# Altium footprint library nucleo-144.PcbLib: 1 footprints
Each footprint in its own frame and in the unit in brackets; x right, y up, seen from the top. Pads: shape width x height; smd on the part's side, far side on the other; paste and mask are expansions set on the pad; w line width, h text height; cw(c..) or ccw(c..) is an arc to the next point about the centre after c.
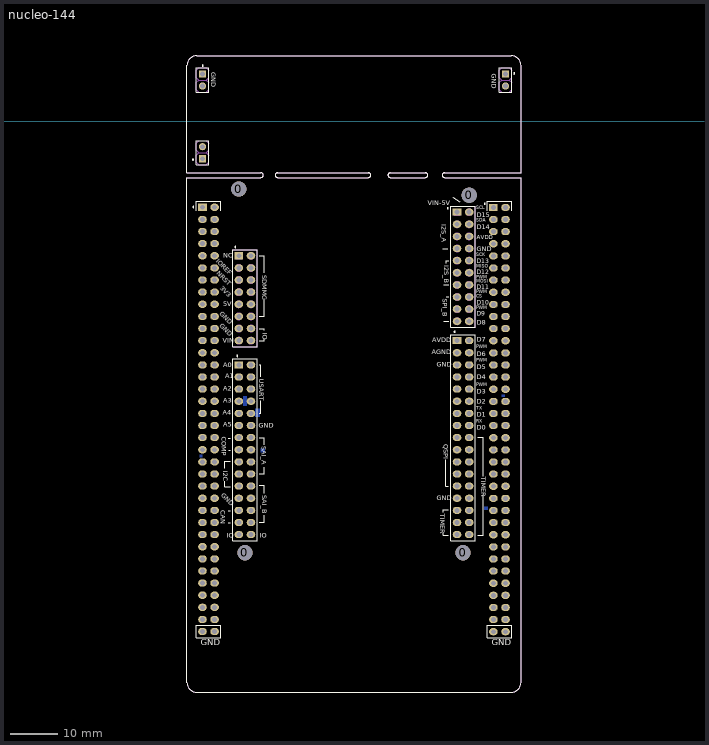
[diagram p0: the footprint, top view; thin cyan lines are the x and y axes]

## nucleo-144 [mm]
pads (254):
  round 3.2 hole 3.2 unplated: 0(55.143,-14.249) 0(56.413,-90.449) 0(102.133,-90.449) 0(103.403,-15.519)
  oval 1.8x1.5 hole 1.02: 1(47.523,-106.959) 1(47.523,-79.019) 1(47.523,-40.919) 1(50.063,-106.959) 1(50.063,-91.719) 1(50.063,-43.459) 1(50.063,-40.919) 1(50.063,-25.679) 1(55.143,-79.019) 1(55.143,-43.459) 1(55.143,-40.919) 1(57.683,-63.779) 1(100.863,-79.019) 1(100.863,-66.319) 1(100.863,-51.079) 1(103.403,-71.399) 1(103.403,-26.695) 1(108.483,-106.985) 1(108.483,-96.825) 1(108.483,-66.345) 1(108.483,-28.245) 1(111.023,-106.985) 1(111.023,-84.125) 1(111.023,-40.945) 3(57.683,-33.299) 4(50.063,-61.239) 4(50.063,-18.059) 4(57.683,-35.839) 5(47.523,-20.599) 5(57.683,-38.379) 6(50.063,-20.599) 6(57.683,-40.919) 7(47.523,-23.139) 8(50.063,-23.139) 9(47.523,-25.679) 10(47.523,-28.219) 11(50.063,-28.219) 13(57.683,-28.219) 13(111.023,-18.085) 14(47.523,-30.759) 14(57.683,-81.559) 15(50.063,-30.759) 15(55.143,-30.759) 16(47.523,-33.299) 17(50.063,-33.299) 17(55.143,-33.299) 18(47.523,-35.839) 19(50.063,-35.839) 19(55.143,-35.839) 20(47.523,-38.379) 20(100.863,-29.235) 21(50.063,-38.379) 21(55.143,-38.379) 22(47.523,-43.459) 22(57.683,-30.759) 23(47.523,-45.999) 24(50.063,-45.999) 24(55.143,-45.999) 25(47.523,-48.539) 26(50.063,-48.539) 27(47.523,-51.079) 29(47.523,-53.619) 29(55.143,-76.479) 30(50.063,-53.619) 31(47.523,-56.159) 31(55.143,-73.939) 32(50.063,-56.159) 32(100.863,-39.395) 33(47.523,-58.699) 34(50.063,-58.699) 34(100.863,-84.099) 35(47.523,-61.239) 35(100.863,-56.159) 37(47.523,-63.779) 37(55.143,-56.159) 38(50.063,-63.779) 38(55.143,-53.619) 39(47.523,-66.319) 39(57.683,-58.699) 40(50.063,-66.319) 40(57.683,-61.239) 41(47.523,-68.859) 41(57.683,-56.159) 42(50.063,-68.859) 42(57.683,-43.459) 43(47.523,-71.399) 43(57.683,-53.619) 44(50.063,-71.399) 44(57.683,-45.999) 45(47.523,-73.939) 45(57.683,-51.079) 46(50.063,-73.939) 46(57.683,-66.319) 46(100.863,-76.479) 47(47.523,-76.479) 47(57.683,-76.479) 48(50.063,-76.479) 48(57.683,-68.859) 49(50.063,-79.019) 49(57.683,-71.399) 50(47.523,-81.559) 52(47.523,-84.099) 53(50.063,-84.099) 53(57.683,-79.019) 54(47.523,-86.639) 54(55.143,-84.099) 55(50.063,-86.639) 55(57.683,-84.099) 56(47.523,-89.179) 56(55.143,-81.559) 57(50.063,-89.179) 57(57.683,-86.639) 58(47.523,-91.719) 58(55.143,-86.639) 59(47.523,-94.259) 60(50.063,-94.259) 60(57.683,-73.939) 62(50.063,-96.799) 63(47.523,-99.339) 64(50.063,-99.339) 65(47.523,-101.879) 66(50.063,-101.879) 67(47.523,-104.419) 68(50.063,-104.419) 69(108.483,-63.805) 70(55.143,-58.699) 70(111.023,-89.205) 71(55.143,-61.239) 71(111.023,-61.265) 73(55.143,-66.319) 74(55.143,-68.859) 74(103.403,-34.315) 75(50.063,-81.559) 75(55.143,-71.399) 80(103.403,-19.075) 80(108.483,-20.625) 81(111.023,-20.625) 82(103.403,-21.615) 82(108.483,-23.165) 83(111.023,-23.165) 84(103.403,-24.155) 84(108.483,-25.705) 85(111.023,-25.705) 86(111.023,-28.245) 87(103.403,-29.235) 87(108.483,-30.785) 88(111.023,-30.785) 89(103.403,-31.775) 89(108.483,-33.325) 90(111.023,-33.325) 91(108.483,-35.865) 92(100.863,-26.695) 92(111.023,-35.865) 93(100.863,-61.239) 93(108.483,-38.405) 94(103.403,-86.639) 94(111.023,-38.405) 95(100.863,-31.775) 95(108.483,-40.945) 96(108.483,-43.485) 97(100.863,-63.779) 97(111.023,-43.485) 98(108.483,-46.025) 99(100.863,-53.619) 99(111.023,-46.025) 100(103.403,-84.099) 100(108.483,-48.565) 101(100.863,-21.615) 101(111.023,-48.565) 102(100.863,-41.935) 102(108.483,-51.105) 103(111.023,-51.105) 104(100.863,-34.315) 104(108.483,-53.645) 105(100.863,-24.155) 105(111.023,-53.645) 106(100.863,-36.855) 106(108.483,-56.185) 107(100.863,-48.539) 107(111.023,-56.185) 108(108.483,-58.725) 109(111.023,-58.725) 110(108.483,-61.265) 112(100.863,-58.699) 112(111.023,-63.805) 113(103.403,-66.319) 113(111.023,-66.345) 115(55.143,-63.779) 115(111.023,-68.885) 116(100.863,-71.399) 116(108.483,-71.425) 117(103.403,-68.859) 117(111.023,-71.425) 119(103.403,-36.855) 119(111.023,-73.965) 120(103.403,-73.939) 120(108.483,-76.505) 121(103.403,-39.395) 121(111.023,-76.505) 122(103.403,-76.479) 122(108.483,-79.045) 123(103.403,-53.619) 123(111.023,-79.045) 124(103.403,-79.019) 124(108.483,-81.585) 125(103.403,-48.539) 125(111.023,-81.585) 126(103.403,-81.559) 126(108.483,-84.125) 127(103.403,-56.159) 127(108.483,-86.665) 128(103.403,-51.079) 128(111.023,-86.665) 129(103.403,-45.999) 129(108.483,-89.205) 131(103.403,-41.935) 131(108.483,-91.745) 132(103.403,-58.699) 132(111.023,-91.745) 134(111.023,-94.285) 135(100.863,-86.639) 135(111.023,-96.825) 136(108.483,-99.365) 137(111.023,-99.365) 138(108.483,-101.905) 139(111.023,-101.905) 140(108.483,-104.445) 141(111.023,-104.445) 144(103.403,-61.239) 144(108.483,-94.285) 145(47.523,-96.799) 145(103.403,-63.779) 146(100.863,-68.859) 146(108.483,-68.885) 148(100.863,-73.939) 148(108.483,-73.965) 149(50.063,-51.079) 149(100.863,-81.559)
  rect 1.5x1.5 hole 1.02: 1(47.523,-7.899) 1(47.523,9.881) 1(111.023,9.881)
  round 1.5 hole 1.02: 1(47.523,7.341) 1(111.023,7.341) 2(47.523,-5.359)
  rect 1.8x1.5 hole 1.02: 3(47.523,-18.059) 12(55.143,-28.219) 69(55.143,-51.079) 78(108.483,-18.085) 81(100.863,-19.075) 84(100.863,-45.999)
Mid-Layer 3:
  pour cut-out: 51.74,-63.017 51.076,-63.017 51.076,-63.729 51.765,-63.729
  pour cut-out: 53.334,-37.943 52.476,-37.943 52.476,-38.684 53.316,-38.684
  pour cut-out: 53.976,-45.788 53.976,-46.406 53.289,-46.406 53.289,-45.788
  pour cut-out: 104.546,-54.204 103.665,-54.204 103.665,-54.788 104.528,-54.788
  pour cut-out: 59.212,-80.738 59.212,-81.356 58.525,-81.356 58.525,-80.738
  pour cut-out: 59.234,-78.275 59.234,-78.892 58.547,-78.892 58.547,-78.275
  pour cut-out: 51.868,-81.399 51.868,-82.017 51.181,-82.017 51.181,-81.399
Bottom Layer:
  pour cut-out: 46.956,-69.926 46.956,-70.404 47.473,-70.404 47.473,-69.919
  pour cut-out: 59.747,-68.656 59.747,-69.366 60.598,-69.366 60.598,-68.656
  pour cut-out: 106.578,-80.828 107.34,-80.828 107.34,-81.483 106.578,-81.483
  pour cut-out: 110.846,-57.302 110.846,-57.785 110.261,-57.785 110.261,-57.302
  pour cut-out: 58.612,-60.238 59.499,-60.238 59.499,-61.987 58.607,-61.987
  pour cut-out: 56.109,-57.69 56.109,-59.651 56.769,-59.651 56.769,-57.683
Top Overlay:
  circle w0.25: c100.348,-44.145 r0.127
  circle w0.25: c98.903,-18.288 r0.127
  circle w0.25: c54.839,-49.2 r0.127
  circle w0.25: c54.416,-26.391 r0.127
  circle w0.25: c45.542,-8.077 r0.127
  circle w0.25: c47.555,11.633 r0.127
  circle w0.25: c112.852,9.982 r0.127
  circle w0.25: c106.672,-17.348 r0.127
  circle w0.25: c45.618,-18.001 r0.127
  lines w0.127: 46.253,-18.771 46.253,-16.789 51.333,-16.789 51.333,-18.771 ; 46.269,-119.661 81.559,-119.661 ; 52.222,-75.438 52.222,-76.581 53.315,-76.581 ; 52.222,-72.746 52.222,-71.298 53.315,-71.298 ; 52.908,-84.201 53.315,-84.201 ; 52.908,-81.661 53.315,-81.661 ; 52.959,-66.421 53.315,-66.421 ; 53.01,-68.961 53.315,-68.961 ; 59.411,-84.099 60.503,-84.099 60.503,-82.601 ; 59.411,-76.276 60.503,-76.276 60.503,-78.003 ; 59.411,-73.939 60.503,-73.939 60.503,-72.517 ; 59.411,-66.319 60.503,-66.319 60.503,-67.818 ; 59.411,-61.239 59.766,-61.239 59.766,-58.598 ; 59.411,-51.079 59.766,-51.079 59.766,-53.569 ; 59.411,-45.999 60.503,-45.999 60.503,-45.65 ; 59.411,-43.459 60.503,-43.459 60.503,-43.84 ; 59.411,-40.919 60.481,-40.919 60.481,-37.262 ; 59.411,-28.219 60.481,-28.219 60.481,-31.725 ; 97.869,-26.695 98.962,-26.695 ; 97.942,-86.335 97.942,-86.741 99.035,-86.741 ; 97.942,-81.991 97.942,-81.458 99.035,-81.458 ; 98.044,-41.935 99.136,-41.935 ; 98.044,-34.315 99.136,-34.315 ; 98.527,-70.93 98.527,-76.479 99.012,-76.479 ; 98.552,-36.855 99.136,-36.855 ; 98.552,-29.794 98.552,-29.235 99.136,-29.235 ; 99.949,-15.977 101.397,-16.942 ; 105.232,-86.741 106.324,-86.741 106.324,-78.511 ; 105.232,-66.218 106.324,-66.218 106.324,-74.371 ; 107.213,-18.796 107.213,-16.815 112.293,-16.815 112.293,-18.796 ; 112.269,-119.655 ccw(c112.269,-117.655) 114.269,-117.655 ; 112.273,-119.659 46.273,-119.659 cw(c46.273,-117.659) 44.273,-117.659 44.273,-11.819 59.773,-11.819 ccw(c59.773,-11.319) 59.773,-10.819 44.273,-10.819 44.273,11.681 cw(c46.273,11.681) 46.273,13.681 112.273,13.681 cw(c112.273,11.681) 114.273,11.681 114.273,-10.819 98.273,-10.819 ccw(c98.273,-11.319) 98.273,-11.819 114.273,-11.819 114.273,-117.659 ; 107.213,-108.255 112.293,-108.255 112.293,-105.664 107.213,-105.664 107.213,-108.255 ; 107.213,-108.255 107.213,-108.255 ; 46.253,-108.229 51.333,-108.229 51.333,-105.639 46.253,-105.639 46.253,-108.229 ; 63.273,-11.819 cw(c63.273,-11.319) 63.273,-10.819 82.273,-10.819 cw(c82.273,-11.319) 82.273,-11.819 63.273,-11.82 ; 86.893,-11.819 cw(c86.893,-11.319) 86.893,-10.819 94.223,-10.819 cw(c94.223,-11.319) 94.223,-11.819 86.893,-11.819
  lines w0.2: 46.253,-9.169 48.793,-9.169 48.793,-4.089 46.253,-4.089 46.253,-9.169 ; 46.253,6.071 46.253,11.151 48.793,11.151 48.793,6.071 46.253,6.071 ; 53.873,-87.909 58.953,-87.909 58.953,-49.809 53.873,-49.809 53.873,-87.909 ; 53.873,-47.269 53.873,-26.949 58.953,-26.949 58.953,-47.269 53.873,-47.269 ; 99.593,-87.909 99.593,-44.729 104.673,-44.729 104.673,-87.909 99.593,-87.909 ; 99.593,-43.205 104.673,-43.205 104.673,-17.805 99.593,-17.805 99.593,-43.205 ; 109.753,6.071 112.293,6.071 112.293,11.151 109.753,11.151 109.753,6.071
  text "AVDD" at 95.682,-46.304 h1.02
  text "AGND" at 95.575,-48.87 h1.02
  text "GND" at 96.586,-51.435 h1.02
  text "GND" at 59.309,-64.262 h1.02
  text "IO" at 52.584,-87.3 h1.02
  text "IO" at 59.538,-87.351 h1.02
  text "I2S_B" at 98.146,-30.175 h1.02
  text "GND" at 49.378,10.287 h1.02
  text "GND" at 108.179,9.879 h1.02
  text "VIN-5V" at 94.742,-17.678 h1.02
  text "A0" at 51.857,-51.537 h1.02
  text "A1" at 52.292,-53.873 h1.02
  text "A2" at 51.857,-56.54 h1.02
  text "A3" at 51.857,-58.979 h1.02
  text "A4" at 51.809,-61.493 h1.02
  text "A5" at 51.857,-64.084 h1.02
  text "D7" at 104.978,-46.228 h1.02
  text "D6" at 104.978,-49.301 h1.02
  text "RX" at 104.878,-63.468 h1.14
  text "TX" at 104.878,-60.782 h1.14
  text "D2" at 104.978,-59.207 h1.02
  text "D3" at 104.978,-57.175 h1.02
  text "D4" at 104.978,-54.102 h1.02
  text "D5" at 104.978,-51.968 h1.02
  text "D15" at 104.978,-20.117 h1.02
  text "D14" at 104.978,-22.682 h1.02
  text "AVDD" at 104.978,-24.79 h0.84
  text "GND" at 104.978,-27.254 h1.02
  text "D13" at 104.978,-29.794 h0.89
  text "D12" at 104.978,-32.106 h0.89
  text "D11" at 104.978,-35.281 h0.89
  text "D10" at 104.978,-38.456 h0.89
  text "D9" at 104.978,-40.792 h0.89
  text "D8" at 104.978,-42.647 h1.02
  text "IOREF" at 50.343,-29.515 h1.02
  text "GND" at 51.086,-40.434 h0.97
  text "NRST" at 50.368,-32.029 h1.02
  text "3V3" at 51.156,-35.077 h1.02
  text "5V" at 51.867,-38.837 h1.02
  text "VIN" at 51.751,-46.482 h1.02
  text "GND" at 51.061,-43.021 h0.97
  text "SDMMC" at 60.02,-32.283 h1.02
  text "IO" at 60.173,-44.323 h1.02
  text "USART" at 59.461,-54 h1.02
  text "SAI_A" at 59.893,-68.174 h1.02
  text "SAI_B" at 60.046,-78.435 h1.02
  text "CAN" at 51.384,-81.585 h1.02
  text "I2C" at 51.892,-73.228 h1.02
  text "COMP" at 51.537,-66.167 h1.02
  text "I2S_A" at 97.638,-21.641 h1.02
  text "SPI_B" at 97.841,-37.186 h1.02
  text "TIMER" at 105.893,-74.549 h1.02
  text "PWM" at 104.877,-39.726 h1.14
  text "PWM" at 104.878,-47.959 h1.14
  text "PWM" at 104.878,-50.775 h1.14
  text "PWM" at 104.878,-55.88 h1.14
  text "SCL" at 104.878,-18.745 h1.14
  text "SDA" at 104.878,-21.387 h1.14
  text "SCK" at 104.877,-28.651 h1.14
  text "MISO" at 104.877,-31.013 h1.14
  text "MOSI" at 104.877,-34.214 h1.14
  text "CS" at 104.877,-37.313 h1.14
  text "GND" at 96.586,-79.451 h1.02
  text "D1" at 104.978,-61.976 h1.02
  text "D0" at 104.978,-64.719 h1.02
  text "PWM" at 104.877,-36.373 h1.14
  text "PWM" at 104.877,-33.325 h1.14
  text "NC" at 51.862,-28.6 h1.02
  text "GND" at 51.308,-78.486 h0.97
  text "GND" at 47.168,-109.779 h1.27
  text "GND" at 108.153,-109.779 h1.27
  text "QSPI" at 98.095,-67.742 h1.02
  text "TIMER" at 97.295,-82.321 h1.02
Bottom Overlay:
  lines w0.127: 98.908,-49.606 98.984,-49.606
  text "PH0" at 45.949,-85.319 h0.71
  text "PH1" at 45.949,-82.271 h0.71
  text "OSCI" at 46.355,-55.016 h0.71
  text "PC8" at 113.868,-17.145 h0.71
  text "PC6" at 114.021,-19.583 h0.71
  text "PC5" at 114.046,-22.225 h0.71
  text "U5V" at 113.944,-24.892 h0.71
  text "PD8" at 113.944,-27.356 h0.71
  text "PA11" at 113.767,-33.249 h0.71
  text "PB12" at 113.868,-35.763 h0.71
  text "PB11" at 113.919,-38.278 h0.71
  text "GND" at 114.046,-40.132 h0.71
  text "PB2" at 113.919,-42.52 h0.71
  text "PC4" at 113.894,-57.963 h0.71
  text "AGND" at 114.137,-55.651 h0.71
  text "PB13" at 114.071,-53.315 h0.71
  text "PB14" at 113.919,-50.902 h0.71
  text "PB1" at 113.767,-45.212 h0.71
  text "PD14" at 114.097,-73.482 h0.71
  text "PE7" at 113.944,-70.764 h0.71
  text "PF10" at 114.148,-68.326 h0.71
  text "PE8" at 113.894,-65.405 h0.71
  text "PF4" at 113.944,-62.941 h0.71
  text "PF5" at 113.995,-60.35 h0.71
  text "PB15" at 113.868,-48.285 h0.71
  text "PF3" at 114.021,-88.468 h0.71
  text "PE11" at 114.071,-86.081 h0.71
  text "GND" at 113.944,-83.21 h0.71
  text "PE9" at 113.944,-80.696 h0.71
  text "PD15" at 113.944,-76.149 h0.71
  text "PG6" at 114.021,-103.53 h0.71
  text "PG5" at 114.046,-101.168 h0.71
  text "PG8" at 113.894,-98.476 h0.71
  text "PE0" at 113.944,-95.987 h0.71
  text "PF11" at 113.919,-93.955 h0.71
  text "PF15" at 114.097,-91.338 h0.71
  text "PF14" at 113.995,-78.664 h0.71
  text "PG4" at 107.239,-104.877 h0.71
  text "PG7" at 107.239,-102.337 h0.71
  text "PD10" at 107.239,-99.797 h0.71
  text "GND" at 107.239,-97.257 h0.71
  text "PG14" at 107.239,-94.717 h0.71
  text "PE14" at 107.239,-82.017 h0.71
  text "PE15" at 107.239,-84.557 h0.71
  text "PE13" at 107.239,-87.097 h0.71
  text "PF13" at 107.239,-89.637 h0.71
  text "PF12" at 107.239,-92.177 h0.71
  text "PD13" at 107.239,-69.317 h0.71
  text "PD12" at 107.239,-71.857 h0.71
  text "PD11" at 107.239,-74.397 h0.71
  text "PE10" at 107.239,-76.937 h0.71
  text "PE12" at 107.239,-79.477 h0.71
  text "PB3" at 107.239,-56.617 h0.71
  text "PA10" at 107.239,-59.157 h0.71
  text "PA2" at 107.239,-61.697 h0.71
  text "PA3" at 107.239,-64.237 h0.71
  text "GND" at 107.239,-66.777 h0.71
  text "PA9" at 107.239,-43.917 h0.71
  text "PA8" at 107.239,-46.457 h0.71
  text "PB10" at 107.239,-48.997 h0.71
  text "PB4" at 107.239,-51.537 h0.71
  text "PB5" at 107.239,-54.077 h0.71
  text "PA5" at 107.239,-31.217 h0.71
  text "PA6" at 107.239,-33.757 h0.71
  text "PA7" at 107.239,-36.297 h0.71
  text "PB6" at 107.239,-38.837 h0.71
  text "PC7" at 107.239,-41.377 h0.71
  text "PC9" at 107.239,-18.517 h0.71
  text "PB8" at 107.239,-21.057 h0.71
  text "PB9" at 107.239,-23.597 h0.71
  text "AVDD" at 107.239,-26.137 h0.71
  text "GND" at 107.239,-28.677 h0.71
  text "PF6" at 45.949,-28.677 h0.71
  text "BT0" at 45.872,-26.137 h0.71
  text "VDD" at 45.949,-23.546 h0.71
  text "PC12" at 46.355,-21.971 h0.71
  text "PC10" at 46.355,-19.863 h0.71
  text "GND" at 45.949,-41.351 h0.71
  text "PA15" at 46.355,-39.802 h0.71
  text "PA14" at 46.355,-37.313 h0.71
  text "PA13" at 46.355,-34.747 h0.71
  text "PF7" at 45.949,-31.318 h0.71
  text "PC15" at 46.177,-52.299 h0.71
  text "PC14" at 46.355,-49.962 h0.71
  text "PC13" at 46.355,-47.346 h0.71
  text "PB7" at 45.949,-43.917 h0.71
  text "PD4" at 45.872,-66.777 h0.71
  text "PC3" at 45.949,-64.795 h0.71
  text "PC2" at 45.949,-62.205 h0.71
  text "VBAT" at 46.355,-60.122 h0.71
  text "OSCO" at 46.355,-57.556 h0.71
  text "GND" at 45.949,-79.223 h0.71
  text "PE3" at 45.822,-76.937 h0.71
  text "PD7" at 45.796,-74.422 h0.71
  text "PD6" at 45.847,-71.907 h0.71
  text "PD5" at 45.847,-69.291 h0.71
  text "PG0" at 45.898,-92.177 h0.71
  text "PD0" at 45.949,-89.459 h0.71
  text "PD1" at 45.949,-87.147 h0.71
  text "PF0" at 45.949,-83.998 h0.71
  text "PF1" at 45.949,-80.924 h0.71
  text "PE1" at 45.872,-94.742 h0.71
  text "PG9" at 45.898,-97.307 h0.71
  text "PG12" at 46.355,-100.787 h0.71
  text "PH2" at 45.949,-102.286 h0.71
  text "PD9" at 45.949,-105.004 h0.71
  text "PE5" at 53.366,-79.451 h0.71
  text "GND" at 53.366,-92.151 h0.71
  text "PE6" at 53.366,-94.691 h0.71
  text "PG15" at 54.106,-97.231 h0.71
  text "PG10" at 54.106,-99.771 h0.71
  text "PG13" at 52.756,-100.152 h0.71
  text "PG11" at 52.781,-103.556 h0.71
  text "PE4" at 53.366,-76.911 h0.71
  text "PF2" at 53.366,-81.991 h0.71
  text "PF8" at 53.366,-84.531 h0.71
  text "PF9" at 53.366,-87.071 h0.71
  text "PG1" at 53.069,-89.611 h0.71
  text "PC1" at 53.069,-61.671 h0.71
  text "PC0" at 53.366,-64.211 h0.71
  text "PD3" at 53.366,-66.751 h0.71
  text "PG2" at 53.366,-69.291 h0.71
  text "PG3" at 53.366,-71.831 h0.71
  text "PE2" at 53.366,-74.371 h0.71
  text "VIN" at 53.218,-46.431 h0.71
  text "PA0" at 53.366,-51.511 h0.71
  text "PA1" at 53.069,-54.051 h0.71
  text "PA4" at 53.366,-56.591 h0.71
  text "PB0" at 53.366,-59.131 h0.71
  text "GND" at 53.366,-43.891 h0.71
  text "GND" at 53.366,-41.351 h0.71
  text "+5V" at 53.366,-38.811 h0.71
  text "3V3" at 53.366,-36.271 h0.71
  text "NRST" at 53.975,-33.655 h0.71
  text "+3V3" at 54.026,-31.191 h0.71
  text "GND" at 53.366,-26.111 h0.71
  text "E5V" at 53.366,-23.571 h0.71
  text "PD2" at 53.366,-21.031 h0.71
  text "PC11" at 53.81,-18.491 h0.71
  text "PA12" at 114.046,-30.505 h0.71
  text "NC" at 52.477,-28.651 h0.71
Keep-Out Layer:
  lines w0.127: 63.273,-11.819 82.273,-11.819 ; 95.733,-119.661 112.269,-119.661 ; 114.273,11.681 114.273,11.681
Mechanical 1:
  lines w0.127: 44.273,-117.659 44.273,-11.819 59.773,-11.82 ccw(c59.773,-11.32) 59.773,-10.82 44.273,-10.82 44.273,11.68 cw(c46.273,11.68) 46.273,13.68 112.273,13.68 cw(c112.273,11.68) 114.273,11.68 ; 44.277,-117.658 ccw(c46.277,-117.658) 46.277,-119.658 ; 63.273,-11.82 cw(c63.273,-11.32) 63.273,-10.82 82.273,-10.82 cw(c82.273,-11.32) 82.273,-11.82 ; 112.273,-119.654 ccw(c112.273,-117.654) 114.273,-117.654 ; 114.273,-117.659 114.273,-11.82 98.273,-11.82 cw(c98.273,-11.32) 98.273,-10.82 114.273,-10.82 114.273,11.68 ; 114.273,11.68 114.273,11.68 ; 86.893,-11.82 cw(c86.893,-11.32) 86.893,-10.82 94.223,-10.82 cw(c94.223,-11.32) 94.223,-11.82 86.893,-11.82
Mechanical 7:
  circle w0.2: c100.863,-41.935 r0.684
  circle w0.2: c103.403,-41.935 r0.684
  circle w0.2: c103.403,-19.075 r0.684
  circle w0.2: c103.403,-21.615 r0.684
  circle w0.2: c103.403,-24.155 r0.684
  circle w0.2: c103.403,-26.695 r0.684
  circle w0.2: c103.403,-29.235 r0.684
  circle w0.2: c103.403,-31.775 r0.684
  circle w0.2: c100.863,-31.775 r0.684
  circle w0.2: c100.863,-29.235 r0.684
  circle w0.2: c100.863,-26.695 r0.684
  circle w0.2: c100.863,-24.155 r0.684
  circle w0.2: c100.863,-21.615 r0.684
  circle w0.2: c100.863,-34.315 r0.684
  circle w0.2: c100.863,-36.855 r0.684
  circle w0.2: c103.403,-36.855 r0.684
  circle w0.2: c103.403,-34.315 r0.684
  circle w0.2: c103.403,-39.395 r0.684
  circle w0.2: c100.863,-39.395 r0.684
  circle w0.2: c57.683,-28.219 r0.684
  circle w0.2: c57.683,-30.759 r0.684
  circle w0.2: c57.683,-33.299 r0.684
  circle w0.2: c57.683,-35.839 r0.684
  circle w0.2: c57.683,-38.379 r0.684
  circle w0.2: c57.683,-40.919 r0.684
  circle w0.2: c55.143,-40.919 r0.684
  circle w0.2: c55.143,-38.379 r0.684
  circle w0.2: c55.143,-35.839 r0.684
  circle w0.2: c55.143,-33.299 r0.684
  circle w0.2: c55.143,-30.759 r0.684
  circle w0.2: c55.143,-43.459 r0.684
  circle w0.2: c55.143,-45.999 r0.684
  circle w0.2: c57.683,-45.999 r0.684
  circle w0.2: c57.683,-43.459 r0.684
  lines w0.2: 53.873,-47.269 53.873,-26.949 58.953,-26.949 58.953,-47.269 53.873,-47.269 ; 54.508,-28.854 55.778,-28.854 55.778,-27.584 54.508,-27.584 54.508,-28.854 ; 99.593,-43.205 104.673,-43.205 104.673,-17.805 99.593,-17.805 99.593,-43.205 ; 100.228,-19.71 101.498,-19.71 101.498,-18.44 100.228,-18.44 100.228,-19.71
Mechanical 13:
  lines w0.025: 46.761,-4.089 46.253,-4.597 46.253,-6.121 46.761,-6.629 ; 46.761,6.071 46.253,6.579 ; 48.285,-4.089 48.793,-4.597 ; 48.285,6.071 48.793,6.579 48.793,8.103 48.285,8.611 ; 110.261,6.071 109.753,6.579 ; 111.785,6.071 112.293,6.579 112.293,8.103 111.785,8.611 ; 46.253,6.579 46.253,8.103 ; 46.253,6.579 46.253,8.103 ; 46.254,8.103 46.762,8.611 ; 46.253,9.119 46.253,10.643 ; 46.253,9.119 46.253,10.643 ; 46.253,9.119 46.761,8.611 ; 46.254,10.643 46.762,11.151 ; 46.761,-9.169 46.253,-8.661 46.253,-7.137 46.761,-6.629 ; 46.761,-9.169 48.285,-9.169 ; 46.761,-9.169 48.285,-9.169 ; 46.761,-6.629 48.285,-6.629 ; 46.761,-6.629 48.285,-6.629 ; 46.761,-6.629 48.285,-6.629 ; 46.761,-6.629 48.285,-6.629 ; 46.761,8.611 48.285,8.611 ; 46.761,8.611 48.285,8.611 ; 46.761,8.611 48.285,8.611 ; 46.761,8.611 48.285,8.611 ; 46.761,11.151 48.285,11.151 ; 46.761,11.151 48.285,11.151 ; 48.285,-9.169 48.793,-8.661 ; 48.285,-6.629 48.793,-6.121 ; 48.285,-6.629 48.793,-7.137 ; 48.285,8.611 48.793,9.119 48.793,10.643 48.285,11.151 ; 48.793,-8.661 48.793,-7.137 ; 48.793,-8.661 48.793,-7.137 ; 48.793,-6.121 48.793,-4.597 ; 48.793,-6.121 48.793,-4.597 ; 109.753,6.579 109.753,8.103 ; 109.753,6.579 109.753,8.103 ; 109.754,8.103 110.262,8.611 ; 109.753,9.119 110.261,8.611 ; 109.753,9.119 109.753,10.643 ; 109.753,9.119 109.753,10.643 ; 109.754,10.643 110.262,11.151 ; 110.261,8.611 111.785,8.611 ; 110.261,8.611 111.785,8.611 ; 110.261,8.611 111.785,8.611 ; 110.261,8.611 111.785,8.611 ; 110.261,11.151 111.785,11.151 ; 110.261,11.151 111.785,11.151 ; 111.785,8.611 112.293,9.119 112.293,10.643 111.785,11.151
Drill Drawing:
  lines w0.127: 46.269,-119.661 81.559,-119.661 ; 46.273,-119.659 cw(c46.273,-117.659) 44.273,-117.659 44.273,-11.819 59.773,-11.819 ccw(c59.773,-11.319) 59.773,-10.819 44.273,-10.819 44.273,11.681 cw(c46.273,11.681) 46.273,13.681 112.273,13.681 cw(c112.273,11.681) 114.273,11.681 ; 95.733,-119.661 112.269,-119.661 ; 112.269,-119.655 ccw(c112.269,-117.655) 114.269,-117.655 ; 114.273,-117.659 114.273,-11.819 98.273,-11.819 cw(c98.273,-11.319) 98.273,-10.819 114.273,-10.819 114.273,11.681 ; 114.273,11.681 114.273,11.681 ; 63.273,-11.819 cw(c63.273,-11.319) 63.273,-10.819 82.273,-10.819 cw(c82.273,-11.319) 82.273,-11.819 63.273,-11.819 ; 86.893,-11.819 cw(c86.893,-11.319) 86.893,-10.819 94.223,-10.819 cw(c94.223,-11.319) 94.223,-11.819 86.893,-11.819
3D body: height 8.64, standoff 0, extent 99.593,-82.831 102.133,-80.291
3D body: height 2.54, standoff -10, extent 100.514,-81.908 101.213,-81.211
3D body: height 8.64, standoff 0, extent 102.133,-82.831 104.673,-80.291
3D body: height 2.54, standoff -10, extent 103.054,-81.908 103.753,-81.211
3D body: height 2.54, standoff -10, extent 103.054,-71.748 103.753,-71.051
3D body: height 8.64, standoff 0, extent 102.133,-72.671 104.673,-70.131
3D body: height 2.54, standoff -10, extent 100.514,-71.748 101.213,-71.051
3D body: height 8.64, standoff 0, extent 99.593,-72.671 102.133,-70.131
3D body: height 8.64, standoff 0, extent 99.593,-77.751 102.133,-75.211
3D body: height 2.54, standoff -10, extent 100.514,-76.828 101.213,-76.131
3D body: height 8.64, standoff 0, extent 102.133,-77.751 104.673,-75.211
3D body: height 2.54, standoff -10, extent 103.054,-76.828 103.753,-76.131
3D body: height 8.64, standoff 0, extent 102.133,-75.211 104.673,-72.671
3D body: height 2.54, standoff -10, extent 103.054,-74.288 103.753,-73.591
3D body: height 8.64, standoff 0, extent 99.593,-75.211 102.133,-72.671
3D body: height 2.54, standoff -10, extent 100.514,-74.288 101.213,-73.591
3D body: height 2.54, standoff -10, extent 103.054,-79.368 103.753,-78.671
3D body: height 8.64, standoff 0, extent 102.133,-80.291 104.673,-77.751
3D body: height 2.54, standoff -10, extent 100.514,-79.368 101.213,-78.671
3D body: height 8.64, standoff 0, extent 99.593,-80.291 102.133,-77.751
3D body: height 8.64, standoff 0, extent 99.593,-67.591 102.133,-65.051
3D body: height 2.54, standoff -10, extent 100.514,-66.668 101.213,-65.971
3D body: height 8.64, standoff 0, extent 102.133,-67.591 104.673,-65.051
3D body: height 2.54, standoff -10, extent 103.054,-66.668 103.753,-65.971
3D body: height 2.54, standoff -10, extent 100.514,-61.588 101.213,-60.891
3D body: height 8.64, standoff 0, extent 99.593,-62.511 102.133,-59.971
3D body: height 2.54, standoff -10, extent 103.054,-61.588 103.753,-60.891
3D body: height 8.64, standoff 0, extent 102.133,-62.511 104.673,-59.971
3D body: height 2.54, standoff -10, extent 103.054,-64.128 103.753,-63.431
3D body: height 8.64, standoff 0, extent 102.133,-65.051 104.673,-62.511
3D body: height 2.54, standoff -10, extent 100.514,-64.128 101.213,-63.431
3D body: height 8.64, standoff 0, extent 99.593,-65.051 102.133,-62.511
3D body: height 8.64, standoff 0, extent 99.593,-59.971 102.133,-57.431
3D body: height 2.54, standoff -10, extent 100.514,-59.048 101.213,-58.351
3D body: height 8.64, standoff 0, extent 102.133,-59.971 104.673,-57.431
3D body: height 2.54, standoff -10, extent 103.054,-59.048 103.753,-58.351
3D body: height 8.64, standoff 0, extent 102.133,-57.431 104.673,-54.891
3D body: height 2.54, standoff -10, extent 103.054,-56.508 103.753,-55.811
3D body: height 8.64, standoff 0, extent 99.593,-57.431 102.133,-54.891
3D body: height 2.54, standoff -10, extent 100.514,-56.508 101.213,-55.811
3D body: height 8.64, standoff 0, extent 99.593,-54.891 102.133,-52.351
3D body: height 2.54, standoff -10, extent 100.514,-53.968 101.213,-53.271
3D body: height 8.64, standoff 0, extent 102.133,-54.891 104.673,-52.351
3D body: height 2.54, standoff -10, extent 103.054,-53.968 103.753,-53.271
3D body: height 8.64, standoff 0, extent 99.593,-52.351 102.133,-49.811
3D body: height 2.54, standoff -10, extent 100.514,-51.428 101.213,-50.731
3D body: height 8.64, standoff 0, extent 102.133,-52.351 104.673,-49.811
3D body: height 2.54, standoff -10, extent 103.054,-51.428 103.753,-50.731
3D body: height 8.64, standoff 0, extent 99.593,-49.811 102.133,-47.271
3D body: height 2.54, standoff -10, extent 100.514,-48.888 101.213,-48.191
3D body: height 8.64, standoff 0, extent 102.133,-49.811 104.673,-47.271
3D body: height 2.54, standoff -10, extent 103.054,-48.888 103.753,-48.191
3D body: height 8.64, standoff 0, extent 102.133,-47.271 104.673,-44.731
3D body: height 2.54, standoff -10, extent 103.054,-46.348 103.753,-45.651
3D body: height 8.64, standoff 0, extent 99.593,-47.271 102.133,-44.731
3D body: height 2.54, standoff -10, extent 100.514,-46.348 101.213,-45.651
3D body: height 2.54, standoff -10, extent 103.054,-69.208 103.753,-68.511
3D body: height 8.64, standoff 0, extent 102.133,-70.131 104.673,-67.591
3D body: height 2.54, standoff -10, extent 100.514,-69.208 101.213,-68.511
3D body: height 8.64, standoff 0, extent 99.593,-70.131 102.133,-67.591
3D body: height 8.64, standoff 0, extent 99.593,-85.371 102.133,-82.831
3D body: height 2.54, standoff -10, extent 100.514,-84.448 101.213,-83.751
3D body: height 8.64, standoff 0, extent 102.133,-85.371 104.673,-82.831
3D body: height 2.54, standoff -10, extent 103.054,-84.448 103.753,-83.751
3D body: height 2.54, standoff -10, extent 103.054,-86.988 103.753,-86.291
3D body: height 8.64, standoff 0, extent 102.133,-87.911 104.673,-85.371
3D body: height 2.54, standoff -10, extent 100.514,-86.988 101.213,-86.291
3D body: height 8.64, standoff 0, extent 99.593,-87.911 102.133,-85.371
3D body: height 8.64, standoff 0, extent 99.593,-43.207 102.133,-40.667
3D body: height 2.54, standoff -10, extent 100.514,-42.284 101.213,-41.587
3D body: height 8.64, standoff 0, extent 102.133,-43.207 104.673,-40.667
3D body: height 2.54, standoff -10, extent 103.054,-42.284 103.753,-41.587
3D body: height 2.54, standoff -10, extent 100.514,-19.424 101.213,-18.727
3D body: height 8.64, standoff 0, extent 99.593,-20.347 102.133,-17.807
3D body: height 2.54, standoff -10, extent 103.054,-19.424 103.753,-18.727
3D body: height 8.64, standoff 0, extent 102.133,-20.347 104.673,-17.807
3D body: height 2.54, standoff -10, extent 103.054,-21.964 103.753,-21.267
3D body: height 8.64, standoff 0, extent 102.133,-22.887 104.673,-20.347
3D body: height 2.54, standoff -10, extent 100.514,-21.964 101.213,-21.267
3D body: height 8.64, standoff 0, extent 99.593,-22.887 102.133,-20.347
3D body: height 2.54, standoff -10, extent 103.054,-24.504 103.753,-23.807
3D body: height 8.64, standoff 0, extent 102.133,-25.427 104.673,-22.887
3D body: height 2.54, standoff -10, extent 100.514,-24.504 101.213,-23.807
3D body: height 8.64, standoff 0, extent 99.593,-25.427 102.133,-22.887
3D body: height 2.54, standoff -10, extent 103.054,-27.044 103.753,-26.347
3D body: height 8.64, standoff 0, extent 102.133,-27.967 104.673,-25.427
3D body: height 2.54, standoff -10, extent 100.514,-27.044 101.213,-26.347
3D body: height 8.64, standoff 0, extent 99.593,-27.967 102.133,-25.427
3D body: height 2.54, standoff -10, extent 100.514,-29.584 101.213,-28.887
3D body: height 8.64, standoff 0, extent 99.593,-30.507 102.133,-27.967
3D body: height 2.54, standoff -10, extent 103.054,-29.584 103.753,-28.887
3D body: height 8.64, standoff 0, extent 102.133,-30.507 104.673,-27.967
3D body: height 2.54, standoff -10, extent 103.054,-32.124 103.753,-31.427
3D body: height 8.64, standoff 0, extent 102.133,-33.047 104.673,-30.507
3D body: height 2.54, standoff -10, extent 100.514,-32.124 101.213,-31.427
3D body: height 8.64, standoff 0, extent 99.593,-33.047 102.133,-30.507
3D body: height 8.64, standoff 0, extent 99.593,-38.127 102.133,-35.587
3D body: height 2.54, standoff -10, extent 100.514,-37.204 101.213,-36.507
3D body: height 8.64, standoff 0, extent 102.133,-38.127 104.673,-35.587
3D body: height 2.54, standoff -10, extent 103.054,-37.204 103.753,-36.507
3D body: height 8.64, standoff 0, extent 102.133,-35.587 104.673,-33.047
3D body: height 2.54, standoff -10, extent 103.054,-34.664 103.753,-33.967
3D body: height 8.64, standoff 0, extent 99.593,-35.587 102.133,-33.047
3D body: height 2.54, standoff -10, extent 100.514,-34.664 101.213,-33.967
3D body: height 2.54, standoff -10, extent 103.054,-39.744 103.753,-39.047
3D body: height 8.64, standoff 0, extent 102.133,-40.667 104.673,-38.127
3D body: height 2.54, standoff -10, extent 100.514,-39.744 101.213,-39.047
3D body: height 8.64, standoff 0, extent 99.593,-40.667 102.133,-38.127
3D body: height 8.64, standoff 0, extent 53.873,-87.911 56.413,-85.371
3D body: height 2.54, standoff -10, extent 54.794,-86.988 55.493,-86.291
3D body: height 8.64, standoff 0, extent 56.413,-87.911 58.953,-85.371
3D body: height 2.54, standoff -10, extent 57.334,-86.988 58.033,-86.291
3D body: height 2.54, standoff -10, extent 57.334,-76.828 58.033,-76.131
3D body: height 8.64, standoff 0, extent 56.413,-77.751 58.953,-75.211
3D body: height 2.54, standoff -10, extent 54.794,-76.828 55.493,-76.131
3D body: height 8.64, standoff 0, extent 53.873,-77.751 56.413,-75.211
3D body: height 8.64, standoff 0, extent 53.873,-82.831 56.413,-80.291
3D body: height 2.54, standoff -10, extent 54.794,-81.908 55.493,-81.211
3D body: height 8.64, standoff 0, extent 56.413,-82.831 58.953,-80.291
3D body: height 2.54, standoff -10, extent 57.334,-81.908 58.033,-81.211
3D body: height 8.64, standoff 0, extent 56.413,-80.291 58.953,-77.751
3D body: height 2.54, standoff -10, extent 57.334,-79.368 58.033,-78.671
3D body: height 8.64, standoff 0, extent 53.873,-80.291 56.413,-77.751
3D body: height 2.54, standoff -10, extent 54.794,-79.368 55.493,-78.671
3D body: height 2.54, standoff -10, extent 57.334,-84.448 58.033,-83.751
3D body: height 8.64, standoff 0, extent 56.413,-85.371 58.953,-82.831
3D body: height 2.54, standoff -10, extent 54.794,-84.448 55.493,-83.751
3D body: height 8.64, standoff 0, extent 53.873,-85.371 56.413,-82.831
3D body: height 8.64, standoff 0, extent 53.873,-72.671 56.413,-70.131
3D body: height 2.54, standoff -10, extent 54.794,-71.748 55.493,-71.051
3D body: height 8.64, standoff 0, extent 56.413,-72.671 58.953,-70.131
3D body: height 2.54, standoff -10, extent 57.334,-71.748 58.033,-71.051
3D body: height 2.54, standoff -10, extent 54.794,-66.668 55.493,-65.971
3D body: height 8.64, standoff 0, extent 53.873,-67.591 56.413,-65.051
3D body: height 2.54, standoff -10, extent 57.334,-66.668 58.033,-65.971
3D body: height 8.64, standoff 0, extent 56.413,-67.591 58.953,-65.051
3D body: height 2.54, standoff -10, extent 57.334,-69.208 58.033,-68.511
3D body: height 8.64, standoff 0, extent 56.413,-70.131 58.953,-67.591
3D body: height 2.54, standoff -10, extent 54.794,-69.208 55.493,-68.511
3D body: height 8.64, standoff 0, extent 53.873,-70.131 56.413,-67.591
3D body: height 8.64, standoff 0, extent 53.873,-65.051 56.413,-62.511
3D body: height 2.54, standoff -10, extent 54.794,-64.128 55.493,-63.431
3D body: height 8.64, standoff 0, extent 56.413,-65.051 58.953,-62.511
3D body: height 2.54, standoff -10, extent 57.334,-64.128 58.033,-63.431
3D body: height 8.64, standoff 0, extent 56.413,-62.511 58.953,-59.971
3D body: height 2.54, standoff -10, extent 57.334,-61.588 58.033,-60.891
3D body: height 8.64, standoff 0, extent 53.873,-62.511 56.413,-59.971
3D body: height 2.54, standoff -10, extent 54.794,-61.588 55.493,-60.891
3D body: height 8.64, standoff 0, extent 53.873,-59.971 56.413,-57.431
3D body: height 2.54, standoff -10, extent 54.794,-59.048 55.493,-58.351
3D body: height 8.64, standoff 0, extent 56.413,-59.971 58.953,-57.431
3D body: height 2.54, standoff -10, extent 57.334,-59.048 58.033,-58.351
3D body: height 8.64, standoff 0, extent 53.873,-57.431 56.413,-54.891
3D body: height 2.54, standoff -10, extent 54.794,-56.508 55.493,-55.811
3D body: height 8.64, standoff 0, extent 56.413,-57.431 58.953,-54.891
3D body: height 2.54, standoff -10, extent 57.334,-56.508 58.033,-55.811
3D body: height 8.64, standoff 0, extent 53.873,-54.891 56.413,-52.351
3D body: height 2.54, standoff -10, extent 54.794,-53.968 55.493,-53.271
3D body: height 8.64, standoff 0, extent 56.413,-54.891 58.953,-52.351
3D body: height 2.54, standoff -10, extent 57.334,-53.968 58.033,-53.271
3D body: height 8.64, standoff 0, extent 56.413,-52.351 58.953,-49.811
3D body: height 2.54, standoff -10, extent 57.334,-51.428 58.033,-50.731
3D body: height 8.64, standoff 0, extent 53.873,-52.351 56.413,-49.811
3D body: height 2.54, standoff -10, extent 54.794,-51.428 55.493,-50.731
3D body: height 2.54, standoff -10, extent 57.334,-74.288 58.033,-73.591
3D body: height 8.64, standoff 0, extent 56.413,-75.211 58.953,-72.671
3D body: height 2.54, standoff -10, extent 54.794,-74.288 55.493,-73.591
3D body: height 8.64, standoff 0, extent 53.873,-75.211 56.413,-72.671
3D body: height 2.54, standoff -10, extent 54.794,-28.568 55.493,-27.871
3D body: height 8.64, standoff 0, extent 53.873,-29.491 56.413,-26.951
3D body: height 2.54, standoff -10, extent 57.334,-28.568 58.033,-27.871
3D body: height 8.64, standoff 0, extent 56.413,-29.491 58.953,-26.951
3D body: height 2.54, standoff -10, extent 57.334,-31.108 58.033,-30.411
3D body: height 8.64, standoff 0, extent 56.413,-32.031 58.953,-29.491
3D body: height 2.54, standoff -10, extent 54.794,-31.108 55.493,-30.411
3D body: height 8.64, standoff 0, extent 53.873,-32.031 56.413,-29.491
3D body: height 2.54, standoff -10, extent 57.334,-33.648 58.033,-32.951
3D body: height 8.64, standoff 0, extent 56.413,-34.571 58.953,-32.031
3D body: height 2.54, standoff -10, extent 54.794,-33.648 55.493,-32.951
3D body: height 8.64, standoff 0, extent 53.873,-34.571 56.413,-32.031
3D body: height 2.54, standoff -10, extent 57.334,-36.188 58.033,-35.491
3D body: height 8.64, standoff 0, extent 56.413,-37.111 58.953,-34.571
3D body: height 2.54, standoff -10, extent 54.794,-36.188 55.493,-35.491
3D body: height 8.64, standoff 0, extent 53.873,-37.111 56.413,-34.571
3D body: height 2.54, standoff -10, extent 54.794,-38.728 55.493,-38.031
3D body: height 8.64, standoff 0, extent 53.873,-39.651 56.413,-37.111
3D body: height 2.54, standoff -10, extent 57.334,-38.728 58.033,-38.031
3D body: height 8.64, standoff 0, extent 56.413,-39.651 58.953,-37.111
3D body: height 2.54, standoff -10, extent 57.334,-41.268 58.033,-40.571
3D body: height 8.64, standoff 0, extent 56.413,-42.191 58.953,-39.651
3D body: height 2.54, standoff -10, extent 54.794,-41.268 55.493,-40.571
3D body: height 8.64, standoff 0, extent 53.873,-42.191 56.413,-39.651
3D body: height 8.64, standoff 0, extent 53.873,-47.271 56.413,-44.731
3D body: height 2.54, standoff -10, extent 54.794,-46.348 55.493,-45.651
3D body: height 8.64, standoff 0, extent 56.413,-47.271 58.953,-44.731
3D body: height 2.54, standoff -10, extent 57.334,-46.348 58.033,-45.651
3D body: height 8.64, standoff 0, extent 56.413,-44.731 58.953,-42.191
3D body: height 2.54, standoff -10, extent 57.334,-43.808 58.033,-43.111
3D body: height 8.64, standoff 0, extent 53.873,-44.731 56.413,-42.191
3D body: height 2.54, standoff -10, extent 54.794,-43.808 55.493,-43.111
3D body: height 9, standoff -3, extent 47.174,-5.709 47.873,-5.012
3D body: height 2.54, standoff 0, extent 46.253,-6.629 48.793,-4.089
3D body: height 9, standoff -3, extent 47.174,-8.249 47.873,-7.552
3D body: height 2.54, standoff 0, extent 46.253,-9.169 48.793,-6.629
3D body: height 2.54, standoff 0, extent 46.253,8.611 48.793,11.151
3D body: height 9, standoff -10, extent 47.174,9.533 47.873,10.231
3D body: height 9, standoff -10, extent 47.174,6.993 47.873,7.691
3D body: height 9, standoff -10, extent 110.674,6.993 111.373,7.691
3D body: height 2.54, standoff 0, extent 109.753,6.071 112.293,8.611
3D body: height 9, standoff -10, extent 110.674,9.533 111.373,10.231
3D body: height 2.54, standoff 0, extent 109.753,8.611 112.293,11.151
3D body: height 2.54, standoff 0, extent 109.753,-19.355 112.293,-16.815
3D body: height 9, standoff -2.54, extent 110.674,-18.432 111.373,-17.735
3D body: height 2.54, standoff 0, extent 109.753,-21.895 112.293,-19.355
3D body: height 9, standoff -2.54, extent 110.674,-20.972 111.373,-20.275
3D body: height 2.54, standoff 0, extent 109.753,-24.435 112.293,-21.895
3D body: height 9, standoff -2.54, extent 110.674,-23.512 111.373,-22.815
3D body: height 9, standoff -2.54, extent 110.674,-26.052 111.373,-25.355
3D body: height 2.54, standoff 0, extent 109.753,-26.975 112.293,-24.435
3D body: height 9, standoff -2.54, extent 110.674,-28.592 111.373,-27.895
3D body: height 2.54, standoff 0, extent 109.753,-29.515 112.293,-26.975
3D body: height 9, standoff -2.54, extent 110.674,-31.132 111.373,-30.435
3D body: height 2.54, standoff 0, extent 109.753,-32.055 112.293,-29.515
3D body: height 2.54, standoff 0, extent 109.753,-44.755 112.293,-42.215
3D body: height 9, standoff -2.54, extent 110.674,-43.832 111.373,-43.135
3D body: height 2.54, standoff 0, extent 109.753,-42.215 112.293,-39.675
3D body: height 9, standoff -2.54, extent 110.674,-41.292 111.373,-40.595
3D body: height 2.54, standoff 0, extent 109.753,-39.675 112.293,-37.135
3D body: height 9, standoff -2.54, extent 110.674,-38.752 111.373,-38.055
3D body: height 9, standoff -2.54, extent 110.674,-36.212 111.373,-35.515
3D body: height 2.54, standoff 0, extent 109.753,-37.135 112.293,-34.595
3D body: height 9, standoff -2.54, extent 110.674,-33.672 111.373,-32.975
3D body: height 2.54, standoff 0, extent 109.753,-34.595 112.293,-32.055
3D body: height 2.54, standoff 0, extent 109.753,-57.455 112.293,-54.915
3D body: height 9, standoff -2.54, extent 110.674,-56.532 111.373,-55.835
3D body: height 2.54, standoff 0, extent 109.753,-54.915 112.293,-52.375
3D body: height 9, standoff -2.54, extent 110.674,-53.992 111.373,-53.295
3D body: height 2.54, standoff 0, extent 109.753,-52.375 112.293,-49.835
3D body: height 9, standoff -2.54, extent 110.674,-51.452 111.373,-50.755
3D body: height 9, standoff -2.54, extent 110.674,-48.912 111.373,-48.215
3D body: height 2.54, standoff 0, extent 109.753,-49.835 112.293,-47.295
3D body: height 9, standoff -2.54, extent 110.674,-46.372 111.373,-45.675
3D body: height 2.54, standoff 0, extent 109.753,-47.295 112.293,-44.755
3D body: height 2.54, standoff 0, extent 109.753,-70.155 112.293,-67.615
3D body: height 9, standoff -2.54, extent 110.674,-69.232 111.373,-68.535
3D body: height 2.54, standoff 0, extent 109.753,-67.615 112.293,-65.075
3D body: height 9, standoff -2.54, extent 110.674,-66.692 111.373,-65.995
3D body: height 2.54, standoff 0, extent 109.753,-65.075 112.293,-62.535
3D body: height 9, standoff -2.54, extent 110.674,-64.152 111.373,-63.455
3D body: height 9, standoff -2.54, extent 110.674,-61.612 111.373,-60.915
3D body: height 2.54, standoff 0, extent 109.753,-62.535 112.293,-59.995
3D body: height 9, standoff -2.54, extent 110.674,-59.072 111.373,-58.375
3D body: height 2.54, standoff 0, extent 109.753,-59.995 112.293,-57.455
3D body: height 2.54, standoff 0, extent 109.753,-80.315 112.293,-77.775
3D body: height 9, standoff -2.54, extent 110.674,-79.392 111.373,-78.695
3D body: height 2.54, standoff 0, extent 109.753,-77.775 112.293,-75.235
3D body: height 9, standoff -2.54, extent 110.674,-76.852 111.373,-76.155
3D body: height 9, standoff -2.54, extent 110.674,-74.312 111.373,-73.615
3D body: height 2.54, standoff 0, extent 109.753,-75.235 112.293,-72.695
3D body: height 9, standoff -2.54, extent 110.674,-71.772 111.373,-71.075
3D body: height 2.54, standoff 0, extent 109.753,-72.695 112.293,-70.155
3D body: height 2.54, standoff 0, extent 109.753,-98.095 112.293,-95.555
3D body: height 9, standoff -2.54, extent 110.674,-97.172 111.373,-96.475
3D body: height 2.54, standoff 0, extent 109.753,-100.635 112.293,-98.095
3D body: height 9, standoff -2.54, extent 110.674,-99.712 111.373,-99.015
3D body: height 9, standoff -2.54, extent 110.674,-102.252 111.373,-101.555
3D body: height 2.54, standoff 0, extent 109.753,-103.175 112.293,-100.635
3D body: height 9, standoff -2.54, extent 110.674,-104.792 111.373,-104.095
3D body: height 2.54, standoff 0, extent 109.753,-105.715 112.293,-103.175
3D body: height 2.54, standoff 0, extent 109.753,-85.395 112.293,-82.855
3D body: height 9, standoff -2.54, extent 110.674,-84.472 111.373,-83.775
3D body: height 2.54, standoff 0, extent 109.753,-87.935 112.293,-85.395
3D body: height 9, standoff -2.54, extent 110.674,-87.012 111.373,-86.315
3D body: height 9, standoff -2.54, extent 110.674,-89.552 111.373,-88.855
3D body: height 2.54, standoff 0, extent 109.753,-90.475 112.293,-87.935
3D body: height 9, standoff -2.54, extent 110.674,-92.092 111.373,-91.395
3D body: height 2.54, standoff 0, extent 109.753,-93.015 112.293,-90.475
3D body: height 9, standoff -2.54, extent 110.674,-94.632 111.373,-93.935
3D body: height 2.54, standoff 0, extent 109.753,-95.555 112.293,-93.015
3D body: height 9, standoff -2.54, extent 110.674,-81.932 111.373,-81.235
3D body: height 2.54, standoff 0, extent 109.753,-82.855 112.293,-80.315
3D body: height 9, standoff -2.54, extent 108.136,-18.434 108.833,-17.736
3D body: height 2.54, standoff 0, extent 107.213,-19.355 109.753,-16.815
3D body: height 2.54, standoff 0, extent 107.213,-82.855 109.753,-80.315
3D body: height 9, standoff -2.54, extent 108.134,-81.932 108.833,-81.235
3D body: height 2.54, standoff 0, extent 107.213,-95.555 109.753,-93.015
3D body: height 9, standoff -2.54, extent 108.134,-94.632 108.833,-93.935
3D body: height 2.54, standoff 0, extent 107.213,-93.015 109.753,-90.475
3D body: height 9, standoff -2.54, extent 108.134,-92.092 108.833,-91.395
3D body: height 2.54, standoff 0, extent 107.213,-90.475 109.753,-87.935
3D body: height 9, standoff -2.54, extent 108.134,-89.552 108.833,-88.855
3D body: height 9, standoff -2.54, extent 108.134,-87.012 108.833,-86.315
3D body: height 2.54, standoff 0, extent 107.213,-87.935 109.753,-85.395
3D body: height 9, standoff -2.54, extent 108.134,-84.472 108.833,-83.775
3D body: height 2.54, standoff 0, extent 107.213,-85.395 109.753,-82.855
3D body: height 2.54, standoff 0, extent 107.213,-105.715 109.753,-103.175
3D body: height 9, standoff -2.54, extent 108.134,-104.792 108.833,-104.095
3D body: height 2.54, standoff 0, extent 107.213,-103.175 109.753,-100.635
3D body: height 9, standoff -2.54, extent 108.134,-102.252 108.833,-101.555
3D body: height 9, standoff -2.54, extent 108.134,-99.712 108.833,-99.015
3D body: height 2.54, standoff 0, extent 107.213,-100.635 109.753,-98.095
3D body: height 9, standoff -2.54, extent 108.134,-97.172 108.833,-96.475
3D body: height 2.54, standoff 0, extent 107.213,-98.095 109.753,-95.555
3D body: height 2.54, standoff 0, extent 107.213,-72.695 109.753,-70.155
3D body: height 9, standoff -2.54, extent 108.134,-71.772 108.833,-71.075
3D body: height 2.54, standoff 0, extent 107.213,-75.235 109.753,-72.695
3D body: height 9, standoff -2.54, extent 108.134,-74.312 108.833,-73.615
3D body: height 9, standoff -2.54, extent 108.134,-76.852 108.833,-76.155
3D body: height 2.54, standoff 0, extent 107.213,-77.775 109.753,-75.235
3D body: height 9, standoff -2.54, extent 108.134,-79.392 108.833,-78.695
3D body: height 2.54, standoff 0, extent 107.213,-80.315 109.753,-77.775
3D body: height 2.54, standoff 0, extent 107.213,-59.995 109.753,-57.455
3D body: height 9, standoff -2.54, extent 108.134,-59.072 108.833,-58.375
3D body: height 2.54, standoff 0, extent 107.213,-62.535 109.753,-59.995
3D body: height 9, standoff -2.54, extent 108.134,-61.612 108.833,-60.915
3D body: height 9, standoff -2.54, extent 108.134,-64.152 108.833,-63.455
3D body: height 2.54, standoff 0, extent 107.213,-65.075 109.753,-62.535
3D body: height 9, standoff -2.54, extent 108.134,-66.692 108.833,-65.995
3D body: height 2.54, standoff 0, extent 107.213,-67.615 109.753,-65.075
3D body: height 9, standoff -2.54, extent 108.134,-69.232 108.833,-68.535
3D body: height 2.54, standoff 0, extent 107.213,-70.155 109.753,-67.615
3D body: height 2.54, standoff 0, extent 107.213,-47.295 109.753,-44.755
3D body: height 9, standoff -2.54, extent 108.134,-46.372 108.833,-45.675
3D body: height 2.54, standoff 0, extent 107.213,-49.835 109.753,-47.295
3D body: height 9, standoff -2.54, extent 108.134,-48.912 108.833,-48.215
3D body: height 9, standoff -2.54, extent 108.134,-51.452 108.833,-50.755
3D body: height 2.54, standoff 0, extent 107.213,-52.375 109.753,-49.835
3D body: height 9, standoff -2.54, extent 108.134,-53.992 108.833,-53.295
3D body: height 2.54, standoff 0, extent 107.213,-54.915 109.753,-52.375
3D body: height 9, standoff -2.54, extent 108.134,-56.532 108.833,-55.835
3D body: height 2.54, standoff 0, extent 107.213,-57.455 109.753,-54.915
3D body: height 2.54, standoff 0, extent 107.213,-34.595 109.753,-32.055
3D body: height 9, standoff -2.54, extent 108.134,-33.672 108.833,-32.975
3D body: height 2.54, standoff 0, extent 107.213,-37.135 109.753,-34.595
3D body: height 9, standoff -2.54, extent 108.134,-36.212 108.833,-35.515
3D body: height 9, standoff -2.54, extent 108.134,-38.752 108.833,-38.055
3D body: height 2.54, standoff 0, extent 107.213,-39.675 109.753,-37.135
3D body: height 9, standoff -2.54, extent 108.134,-41.292 108.833,-40.595
3D body: height 2.54, standoff 0, extent 107.213,-42.215 109.753,-39.675
3D body: height 9, standoff -2.54, extent 108.134,-43.832 108.833,-43.135
3D body: height 2.54, standoff 0, extent 107.213,-44.755 109.753,-42.215
3D body: height 2.54, standoff 0, extent 107.213,-32.055 109.753,-29.515
3D body: height 9, standoff -2.54, extent 108.134,-31.132 108.833,-30.435
3D body: height 2.54, standoff 0, extent 107.213,-29.515 109.753,-26.975
3D body: height 9, standoff -2.54, extent 108.134,-28.592 108.833,-27.895
3D body: height 2.54, standoff 0, extent 107.213,-26.975 109.753,-24.435
3D body: height 9, standoff -2.54, extent 108.134,-26.052 108.833,-25.355
3D body: height 9, standoff -2.54, extent 108.134,-23.512 108.833,-22.815
3D body: height 2.54, standoff 0, extent 107.213,-24.435 109.753,-21.895
3D body: height 9, standoff -2.54, extent 108.134,-20.972 108.833,-20.275
3D body: height 2.54, standoff 0, extent 107.213,-21.895 109.753,-19.355
3D body: height 9, standoff -2.54, extent 108.134,-107.332 108.833,-106.635
3D body: height 2.54, standoff 0, extent 107.213,-108.255 109.753,-105.715
3D body: height 2.54, standoff 0, extent 109.753,-108.255 112.293,-105.715
3D body: height 9, standoff -2.54, extent 110.674,-107.332 111.373,-106.635
3D body: height 2.54, standoff 0, extent 48.793,-19.329 51.333,-16.789
3D body: height 9, standoff -2.54, extent 49.714,-18.407 50.413,-17.709
3D body: height 2.54, standoff 0, extent 48.793,-21.869 51.333,-19.329
3D body: height 9, standoff -2.54, extent 49.714,-20.947 50.413,-20.249
3D body: height 2.54, standoff 0, extent 48.793,-24.409 51.333,-21.869
3D body: height 9, standoff -2.54, extent 49.714,-23.487 50.413,-22.789
3D body: height 9, standoff -2.54, extent 49.714,-26.027 50.413,-25.329
3D body: height 2.54, standoff 0, extent 48.793,-26.949 51.333,-24.409
3D body: height 9, standoff -2.54, extent 49.714,-28.567 50.413,-27.869
3D body: height 2.54, standoff 0, extent 48.793,-29.489 51.333,-26.949
3D body: height 9, standoff -2.54, extent 49.714,-31.107 50.413,-30.409
3D body: height 2.54, standoff 0, extent 48.793,-32.029 51.333,-29.489
3D body: height 2.54, standoff 0, extent 48.793,-44.729 51.333,-42.189
3D body: height 9, standoff -2.54, extent 49.714,-43.807 50.413,-43.109
3D body: height 2.54, standoff 0, extent 48.793,-42.189 51.333,-39.649
3D body: height 9, standoff -2.54, extent 49.714,-41.267 50.413,-40.569
3D body: height 2.54, standoff 0, extent 48.793,-39.649 51.333,-37.109
3D body: height 9, standoff -2.54, extent 49.714,-38.727 50.413,-38.029
3D body: height 9, standoff -2.54, extent 49.714,-36.187 50.413,-35.489
3D body: height 2.54, standoff 0, extent 48.793,-37.109 51.333,-34.569
3D body: height 9, standoff -2.54, extent 49.714,-33.647 50.413,-32.949
3D body: height 2.54, standoff 0, extent 48.793,-34.569 51.333,-32.029
3D body: height 2.54, standoff 0, extent 48.793,-57.429 51.333,-54.889
3D body: height 9, standoff -2.54, extent 49.714,-56.507 50.413,-55.809
3D body: height 2.54, standoff 0, extent 48.793,-54.889 51.333,-52.349
3D body: height 9, standoff -2.54, extent 49.714,-53.967 50.413,-53.269
3D body: height 2.54, standoff 0, extent 48.793,-52.349 51.333,-49.809
3D body: height 9, standoff -2.54, extent 49.714,-51.427 50.413,-50.729
3D body: height 9, standoff -2.54, extent 49.714,-48.887 50.413,-48.189
3D body: height 2.54, standoff 0, extent 48.793,-49.809 51.333,-47.269
3D body: height 9, standoff -2.54, extent 49.714,-46.347 50.413,-45.649
3D body: height 2.54, standoff 0, extent 48.793,-47.269 51.333,-44.729
3D body: height 2.54, standoff 0, extent 48.793,-70.129 51.333,-67.589
3D body: height 9, standoff -2.54, extent 49.714,-69.207 50.413,-68.509
3D body: height 2.54, standoff 0, extent 48.793,-67.589 51.333,-65.049
3D body: height 9, standoff -2.54, extent 49.714,-66.667 50.413,-65.969
3D body: height 2.54, standoff 0, extent 48.793,-65.049 51.333,-62.509
3D body: height 9, standoff -2.54, extent 49.714,-64.127 50.413,-63.429
3D body: height 9, standoff -2.54, extent 49.714,-61.587 50.413,-60.889
3D body: height 2.54, standoff 0, extent 48.793,-62.509 51.333,-59.969
3D body: height 9, standoff -2.54, extent 49.714,-59.047 50.413,-58.349
3D body: height 2.54, standoff 0, extent 48.793,-59.969 51.333,-57.429
3D body: height 2.54, standoff 0, extent 48.793,-80.289 51.333,-77.749
3D body: height 9, standoff -2.54, extent 49.714,-79.367 50.413,-78.669
3D body: height 2.54, standoff 0, extent 48.793,-77.749 51.333,-75.209
3D body: height 9, standoff -2.54, extent 49.714,-76.827 50.413,-76.129
3D body: height 9, standoff -2.54, extent 49.714,-74.287 50.413,-73.589
3D body: height 2.54, standoff 0, extent 48.793,-75.209 51.333,-72.669
3D body: height 9, standoff -2.54, extent 49.714,-71.747 50.413,-71.049
3D body: height 2.54, standoff 0, extent 48.793,-72.669 51.333,-70.129
3D body: height 2.54, standoff 0, extent 48.793,-98.069 51.333,-95.529
3D body: height 9, standoff -2.54, extent 49.714,-97.147 50.413,-96.449
3D body: height 2.54, standoff 0, extent 48.793,-100.609 51.333,-98.069
3D body: height 9, standoff -2.54, extent 49.714,-99.687 50.413,-98.989
3D body: height 9, standoff -2.54, extent 49.714,-102.227 50.413,-101.529
3D body: height 2.54, standoff 0, extent 48.793,-103.149 51.333,-100.609
3D body: height 9, standoff -2.54, extent 49.714,-104.767 50.413,-104.069
3D body: height 2.54, standoff 0, extent 48.793,-105.689 51.333,-103.149
3D body: height 2.54, standoff 0, extent 48.793,-85.369 51.333,-82.829
3D body: height 9, standoff -2.54, extent 49.714,-84.447 50.413,-83.749
3D body: height 2.54, standoff 0, extent 48.793,-87.909 51.333,-85.369
3D body: height 9, standoff -2.54, extent 49.714,-86.987 50.413,-86.289
3D body: height 9, standoff -2.54, extent 49.714,-89.527 50.413,-88.829
3D body: height 2.54, standoff 0, extent 48.793,-90.449 51.333,-87.909
3D body: height 9, standoff -2.54, extent 49.714,-92.067 50.413,-91.369
3D body: height 2.54, standoff 0, extent 48.793,-92.989 51.333,-90.449
3D body: height 9, standoff -2.54, extent 49.714,-94.607 50.413,-93.909
3D body: height 2.54, standoff 0, extent 48.793,-95.529 51.333,-92.989
3D body: height 9, standoff -2.54, extent 49.714,-81.907 50.413,-81.209
3D body: height 2.54, standoff 0, extent 48.793,-82.829 51.333,-80.289
3D body: height 9, standoff -2.54, extent 47.176,-18.409 47.873,-17.71
3D body: height 2.54, standoff 0, extent 46.253,-19.329 48.793,-16.789
3D body: height 2.54, standoff 0, extent 46.253,-82.829 48.793,-80.289
3D body: height 9, standoff -2.54, extent 47.174,-81.907 47.873,-81.209
3D body: height 2.54, standoff 0, extent 46.253,-95.529 48.793,-92.989
3D body: height 9, standoff -2.54, extent 47.174,-94.607 47.873,-93.909
3D body: height 2.54, standoff 0, extent 46.253,-92.989 48.793,-90.449
3D body: height 9, standoff -2.54, extent 47.174,-92.067 47.873,-91.369
3D body: height 2.54, standoff 0, extent 46.253,-90.449 48.793,-87.909
3D body: height 9, standoff -2.54, extent 47.174,-89.527 47.873,-88.829
3D body: height 9, standoff -2.54, extent 47.174,-86.987 47.873,-86.289
3D body: height 2.54, standoff 0, extent 46.253,-87.909 48.793,-85.369
3D body: height 9, standoff -2.54, extent 47.174,-84.447 47.873,-83.749
3D body: height 2.54, standoff 0, extent 46.253,-85.369 48.793,-82.829
3D body: height 2.54, standoff 0, extent 46.253,-105.689 48.793,-103.149
3D body: height 9, standoff -2.54, extent 47.174,-104.767 47.873,-104.069
3D body: height 2.54, standoff 0, extent 46.253,-103.149 48.793,-100.609
3D body: height 9, standoff -2.54, extent 47.174,-102.227 47.873,-101.529
3D body: height 9, standoff -2.54, extent 47.174,-99.687 47.873,-98.989
3D body: height 2.54, standoff 0, extent 46.253,-100.609 48.793,-98.069
3D body: height 9, standoff -2.54, extent 47.174,-97.147 47.873,-96.449
3D body: height 2.54, standoff 0, extent 46.253,-98.069 48.793,-95.529
3D body: height 2.54, standoff 0, extent 46.253,-72.669 48.793,-70.129
3D body: height 9, standoff -2.54, extent 47.174,-71.747 47.873,-71.049
3D body: height 2.54, standoff 0, extent 46.253,-75.209 48.793,-72.669
3D body: height 9, standoff -2.54, extent 47.174,-74.287 47.873,-73.589
3D body: height 9, standoff -2.54, extent 47.174,-76.827 47.873,-76.129
3D body: height 2.54, standoff 0, extent 46.253,-77.749 48.793,-75.209
3D body: height 9, standoff -2.54, extent 47.174,-79.367 47.873,-78.669
3D body: height 2.54, standoff 0, extent 46.253,-80.289 48.793,-77.749
3D body: height 2.54, standoff 0, extent 46.253,-59.969 48.793,-57.429
3D body: height 9, standoff -2.54, extent 47.174,-59.047 47.873,-58.349
3D body: height 2.54, standoff 0, extent 46.253,-62.509 48.793,-59.969
3D body: height 9, standoff -2.54, extent 47.174,-61.587 47.873,-60.889
3D body: height 9, standoff -2.54, extent 47.174,-64.127 47.873,-63.429
3D body: height 2.54, standoff 0, extent 46.253,-65.049 48.793,-62.509
3D body: height 9, standoff -2.54, extent 47.174,-66.667 47.873,-65.969
3D body: height 2.54, standoff 0, extent 46.253,-67.589 48.793,-65.049
3D body: height 9, standoff -2.54, extent 47.174,-69.207 47.873,-68.509
3D body: height 2.54, standoff 0, extent 46.253,-70.129 48.793,-67.589
3D body: height 2.54, standoff 0, extent 46.253,-47.269 48.793,-44.729
3D body: height 9, standoff -2.54, extent 47.174,-46.347 47.873,-45.649
3D body: height 2.54, standoff 0, extent 46.253,-49.809 48.793,-47.269
3D body: height 9, standoff -2.54, extent 47.174,-48.887 47.873,-48.189
3D body: height 9, standoff -2.54, extent 47.174,-51.427 47.873,-50.729
3D body: height 2.54, standoff 0, extent 46.253,-52.349 48.793,-49.809
3D body: height 9, standoff -2.54, extent 47.174,-53.967 47.873,-53.269
3D body: height 2.54, standoff 0, extent 46.253,-54.889 48.793,-52.349
3D body: height 9, standoff -2.54, extent 47.174,-56.507 47.873,-55.809
3D body: height 2.54, standoff 0, extent 46.253,-57.429 48.793,-54.889
3D body: height 2.54, standoff 0, extent 46.253,-34.569 48.793,-32.029
3D body: height 9, standoff -2.54, extent 47.174,-33.647 47.873,-32.949
3D body: height 2.54, standoff 0, extent 46.253,-37.109 48.793,-34.569
3D body: height 9, standoff -2.54, extent 47.174,-36.187 47.873,-35.489
3D body: height 9, standoff -2.54, extent 47.174,-38.727 47.873,-38.029
3D body: height 2.54, standoff 0, extent 46.253,-39.649 48.793,-37.109
3D body: height 9, standoff -2.54, extent 47.174,-41.267 47.873,-40.569
3D body: height 2.54, standoff 0, extent 46.253,-42.189 48.793,-39.649
3D body: height 9, standoff -2.54, extent 47.174,-43.807 47.873,-43.109
3D body: height 2.54, standoff 0, extent 46.253,-44.729 48.793,-42.189
3D body: height 2.54, standoff 0, extent 46.253,-32.029 48.793,-29.489
3D body: height 9, standoff -2.54, extent 47.174,-31.107 47.873,-30.409
3D body: height 2.54, standoff 0, extent 46.253,-29.489 48.793,-26.949
3D body: height 9, standoff -2.54, extent 47.174,-28.567 47.873,-27.869
3D body: height 2.54, standoff 0, extent 46.253,-26.949 48.793,-24.409
3D body: height 9, standoff -2.54, extent 47.174,-26.027 47.873,-25.329
3D body: height 9, standoff -2.54, extent 47.174,-23.487 47.873,-22.789
3D body: height 2.54, standoff 0, extent 46.253,-24.409 48.793,-21.869
3D body: height 9, standoff -2.54, extent 47.174,-20.947 47.873,-20.249
3D body: height 2.54, standoff 0, extent 46.253,-21.869 48.793,-19.329
3D body: height 9, standoff -2.54, extent 47.174,-107.307 47.873,-106.609
3D body: height 2.54, standoff 0, extent 46.253,-108.229 48.793,-105.689
3D body: height 2.54, standoff 0, extent 48.793,-108.229 51.333,-105.689
3D body: height 9, standoff -2.54, extent 49.714,-107.307 50.413,-106.609
3D body: height 2.54, standoff 0, extent 46.253,6.071 48.793,8.611